# EAGLE library part MMA8652 (library X893)
http://cache.freescale.com/files/sensors/doc/data_sheet/MMA8652FC.pdf?pspll=1
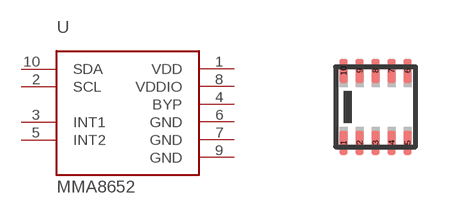
[diagram p188: symbol with the pads of DFN10; footprint DFN10]

Designator prefix U

## MMA8652  [DFN10]
1  VDD  pwr
2  SCL  in
3  INT1  oc
4  BYP
5  INT2  oc
6  GND  sup
7  GND  sup
8  VDDIO  pwr
9  GND  sup
10  SDA

## Footprint DFN10 (pad centres in mm)
smd 0.2 x 0.6: 1 -0.8,-0.9; 2 -0.4,-0.9; 3 0,-0.9; 4 0.4,-0.9; 5 0.8,-0.9; 6 0.8,0.9; 7 0.4,0.9; 8 0,0.9; 9 -0.4,0.9; 10 -0.8,0.9